# EAGLE library part FAIRCHILD_FDMQ8205 (library Poe)
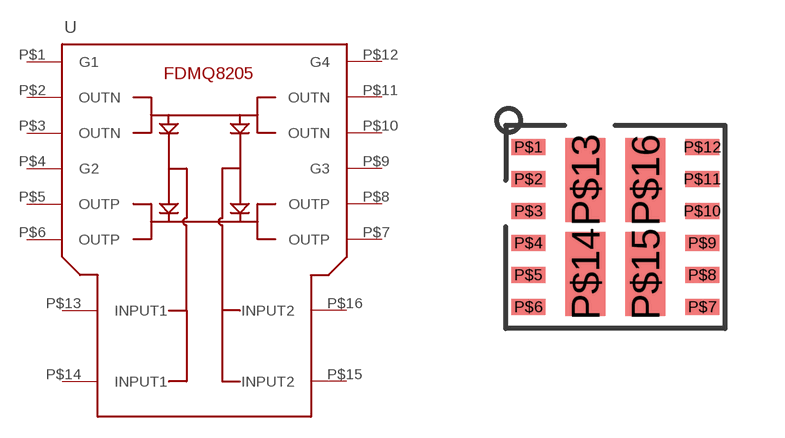
[diagram p9: symbol with the pads of FAIRCHILD_FDMQ8205; footprint FAIRCHILD_FDMQ8205]

Designator prefix U

## FAIRCHILD_FDMQ8205  [FAIRCHILD_FDMQ8205]
P$1  G1
P$2  OUTN
P$3  OUTN
P$4  G2
P$5  OUTP
P$6  OUTP
P$7  OUTP
P$8  OUTP
P$9  G3
P$10  OUTN
P$11  OUTN
P$12  G4
P$13  INPUT1
P$14  INPUT1
P$15  INPUT2
P$16  INPUT2

## Footprint FAIRCHILD_FDMQ8205 (pad centres in mm)
smd 0.85 x 0.4: P$1 -2.175,2; P$2 -2.175,1.2; P$3 -2.175,0.4; P$4 -2.175,-0.4; P$5 -2.175,-1.2; P$6 -2.175,-2; P$7 2.175,-2; P$8 2.175,-1.2; P$9 2.175,-0.4; P$10 2.175,0.4; P$11 2.175,1.2; P$12 2.175,2
smd 1 x 2.1: P$13 -0.75,1.175; P$14 -0.75,-1.175; P$15 0.75,-1.175; P$16 0.75,1.175